# Altium footprint library CON-2.5.PcbLib: 1 footprints
Each footprint in its own frame and in the unit in brackets; x right, y up, seen from the top. Pads: shape width x height; smd on the part's side, far side on the other; paste and mask are expansions set on the pad; w line width, h text height; cw(c..) or ccw(c..) is an arc to the next point about the centre after c.
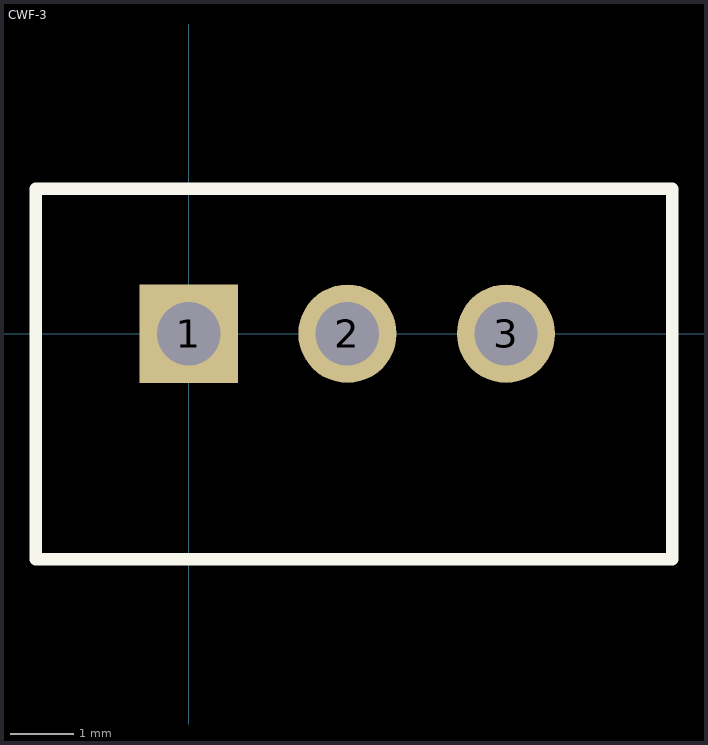
[diagram p0: the footprint, top view; thin cyan lines are the x and y axes]

## CWF-3 [mm]
pads (3):
  rect 1.55x1.55 hole 1: 1(0,0)
  round 1.55 hole 1: 2(2.5,0) 3(5,0)
Top Overlay:
  lines w0.2: -2.413,-3.556 -2.413,2.286 7.62,2.286 7.62,-3.556 -2.413,-3.556
3D body "User Library-CWF-3.step": height 7, standoff -3.5, extent -2.413,-3.51 7.587,2.24